# Altium schematic symbol library LD1085V50.SchLib: 1 symbol
Pins are listed as number, name and electrical type; pins without a type are passive.

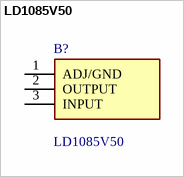
[diagram p0: symbol LD1085V50]

## LD1085V50
designator B?
LD1085V50, Low Dropout Voltage Regulator, 3A, 5 V +/-1%, 3-Pin TO-220; Manufacturer_Name: STMicroelectronics; Geometry.Height: 4.6mm; Mouser Part Number: 511-LD1085V50; Mouser Price/Stock: https://www.mouser.co.uk/ProductDetail/STMicroelectronics/LD1085V50?qs=9iSXU9KXrZlaERTj280krQ%3D%3D; Manufacturer_Part_Number: LD1085V50; Datasheet Link: http://www.st.com/web/en/resource/technical/document/datasheet/CD00001883.pdf
footprint TO255P460X1020X2008-3P
pins: 1 ADJ/GND, 2 OUTPUT, 3 INPUT